# EAGLE library part 74HC368 (library Quynn)
Hex Buffer / Line Driver
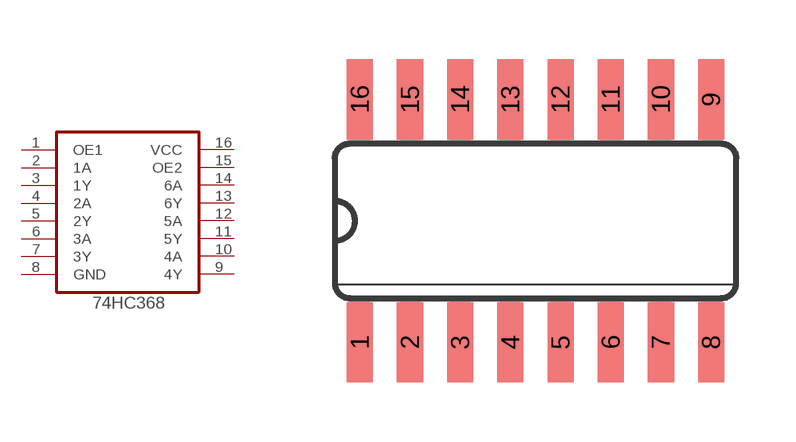
[diagram p1: symbol with the pads of SO16; footprint SO16]

Designator prefix -

## 74HC368  [SO16]
1  OE1  hiz
2  1A  in
3  1Y  pwr
4  2A  in
5  2Y  in
6  3A  in
7  3Y  in
8  GND  in
9  4Y  in
10  4A  in
11  5Y  pwr
12  5A  in
13  6Y  in
14  6A  in
15  OE2  pwr
16  VCC  out

## Footprint SO16 (pad centres in mm)
Small Outline package 150 mil
smd 0.66 x 2.032: 1 -4.445,-3.073; 2 -3.175,-3.073; 3 -1.905,-3.073; 4 -0.635,-3.073; 5 0.635,-3.073; 6 1.905,-3.073; 7 3.175,-3.073; 8 4.445,-3.073; 9 4.445,3.073; 10 3.175,3.073; 11 1.905,3.073; 12 0.635,3.073; 13 -0.635,3.073; 14 -1.905,3.073; 15 -3.175,3.073; 16 -4.445,3.073